# Altium footprint library PcbLib1.PcbLib: 2 footprints
Each footprint in its own frame and in the unit in brackets; x right, y up, seen from the top. Pads: shape width x height; smd on the part's side, far side on the other; paste and mask are expansions set on the pad; w line width, h text height; cw(c..) or ccw(c..) is an arc to the next point about the centre after c.
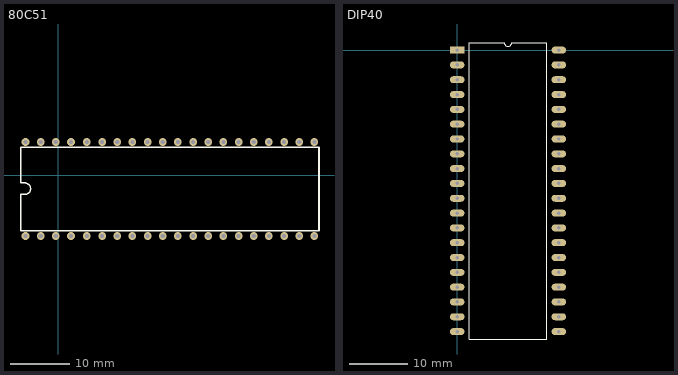
[diagram p0: the footprints below, top view; thin cyan lines are the x and y axes]

## 80C51 [mm]
via 42.926,-10.16 diameter 1.27 hole 0.711
via 40.386,-10.16 diameter 1.27 hole 0.711
via 37.846,-10.16 diameter 1.27 hole 0.711
via 35.306,-10.16 diameter 1.27 hole 0.711
via 30.226,-10.16 diameter 1.27 hole 0.711
via 27.686,-10.16 diameter 1.27 hole 0.711
via 25.146,-10.16 diameter 1.27 hole 0.711
via 17.526,-10.16 diameter 1.27 hole 0.711
via 12.446,-10.16 diameter 1.27 hole 0.711
via 14.986,-10.16 diameter 1.27 hole 0.711
via 20.066,-10.16 diameter 1.27 hole 0.711
via 22.606,-10.16 diameter 1.27 hole 0.711
via 9.906,-10.16 diameter 1.27 hole 0.711
via 32.766,-10.16 diameter 1.27 hole 0.711
via 7.366,-10.16 diameter 1.27 hole 0.711
via 4.826,-10.16 diameter 1.27 hole 0.711
via 2.159,-10.16 diameter 1.27 hole 0.711
via -0.381,-10.16 diameter 1.27 hole 0.711
via -2.921,-10.16 diameter 1.27 hole 0.711
via -5.461,-10.16 diameter 1.27 hole 0.711
via 42.926,5.588 diameter 1.27 hole 0.711
via 40.386,5.588 diameter 1.27 hole 0.711
via 37.846,5.588 diameter 1.27 hole 0.711
via 35.306,5.588 diameter 1.27 hole 0.711
via 32.766,5.588 diameter 1.27 hole 0.711
via 30.226,5.588 diameter 1.27 hole 0.711
via 4.826,5.588 diameter 1.27 hole 0.711
via 27.686,5.588 diameter 1.27 hole 0.711
via 14.986,5.588 diameter 1.27 hole 0.711
via 17.526,5.588 diameter 1.27 hole 0.711
via 22.606,5.588 diameter 1.27 hole 0.711
via 25.146,5.588 diameter 1.27 hole 0.711
via 20.066,5.588 diameter 1.27 hole 0.711
via 12.446,5.588 diameter 1.27 hole 0.711
via 9.906,5.588 diameter 1.27 hole 0.711
via 7.366,5.588 diameter 1.27 hole 0.711
via 2.159,5.588 diameter 1.27 hole 0.711
via -0.381,5.588 diameter 1.27 hole 0.711
via -2.921,5.588 diameter 1.27 hole 0.711
via -5.461,5.588 diameter 1.27 hole 0.711
Top Overlay:
  lines w0.254: -5.588,-1.27 cw(c-5.588,-2.237) -5.588,-3.204 -6.223,-3.204 -6.223,-3.302 -6.223,-9.274 43.688,-9.274 43.688,4.699 -6.223,4.699 -6.223,-1.27 -5.461,-1.27

## DIP40 [mm]
pads (40):
  rect 2.5x1.2 hole 0.6: 1(0,0)
  oval 2.5x1.2 hole 0.6: 2(0,-2.54) 3(0,-5.08) 4(0,-7.62) 5(0,-10.16) 6(0,-12.7) 7(0,-15.24) 8(0,-17.78) 9(0,-20.32) 10(0,-22.86) 11(0,-25.4) 12(0,-27.94) 13(0,-30.48) 14(0,-33.02) 15(0,-35.56) 16(0,-38.1) 17(0,-40.64) 18(0,-43.18) 19(0,-45.72) 20(0,-48.26) 21(17.42,-48.26) 22(17.42,-45.72) 23(17.42,-43.18) 24(17.42,-40.64) 25(17.42,-38.1) 26(17.42,-35.56) 27(17.42,-33.02) 28(17.42,-30.48) 29(17.42,-27.94) 30(17.42,-25.4) 31(17.42,-22.86) 32(17.42,-20.32) 33(17.42,-17.78) 34(17.42,-15.24) 35(17.42,-12.7) 36(17.42,-10.16) 37(17.42,-7.62) 38(17.42,-5.08) 39(17.42,-2.54) 40(17.42,0)
Top Overlay:
  lines w0.2: 2.085,-49.53 15.335,-49.53 15.335,1.27 9.345,1.27 cw(c8.71,1.27) 8.075,1.27 2.085,1.27 2.085,-49.53